# EAGLE library part TI-OPT3001 (library FaBo-Mems)
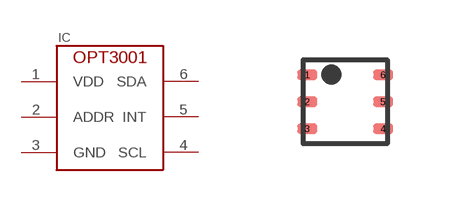
[diagram p24: symbol with the pads of TI-OPT3001; footprint TI-OPT3001]

Designator prefix IC

## TI-OPT3001  [TI-OPT3001]
1  VDD
2  ADDR
3  GND
4  SCL
5  INT
6  SDA

## Footprint TI-OPT3001 (pad centres in mm)
smd 0.5 x 0.25: 1 -0.95,0.675; 2 -0.95,0; 3 -0.95,-0.675; 4 0.95,-0.675; 5 0.95,0; 6 0.95,0.675